# Altium integrated library TFM-110-21-S-D.IntLib: 1 symbol
Pins are listed as number, name and electrical type; pins without a type are passive.

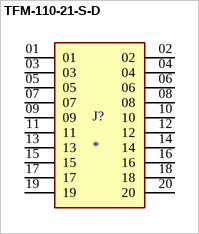
[diagram p0: symbol TFM-110-21-S-D]

## TFM-110-21-S-D
designator J?
TFM - Samtec 1.27mm Tiger Eyeâ„¢ | High-Reliability Through Hole Header; MP: TFM-110-21-S-D; SnapEDA_Link: https://www.snapeda.com/parts/TFM-110-21-S-D/Samtec/view-part/3250755/?ref=snap; Price: None; Purchase-URL: https://pricing.snapeda.com/search/part/TFM-110-21-S-D/?ref=eda; MF: Samtec; Package: None; Availability: Bad; Check_prices: https://www.snapeda.com/parts/TFM-110-21-S-D/Samtec/view-part/3250755/?ref=eda; Value: *
footprint SAMTEC_TFM-110-21-S-D
pins: 01, 02, 03, 04, 05, 06, 07, 08, 09, 10, 11, 12, 13, 14, 15, 16, 17, 18, 19, 20